# Altium footprint library Button.PcbLib: 18 footprints (part 1 of 2)
Each footprint in its own frame and in the unit in brackets; x right, y up, seen from the top. Pads: shape width x height; smd on the part's side, far side on the other; paste and mask are expansions set on the pad; w line width, h text height; cw(c..) or ccw(c..) is an arc to the next point about the centre after c.
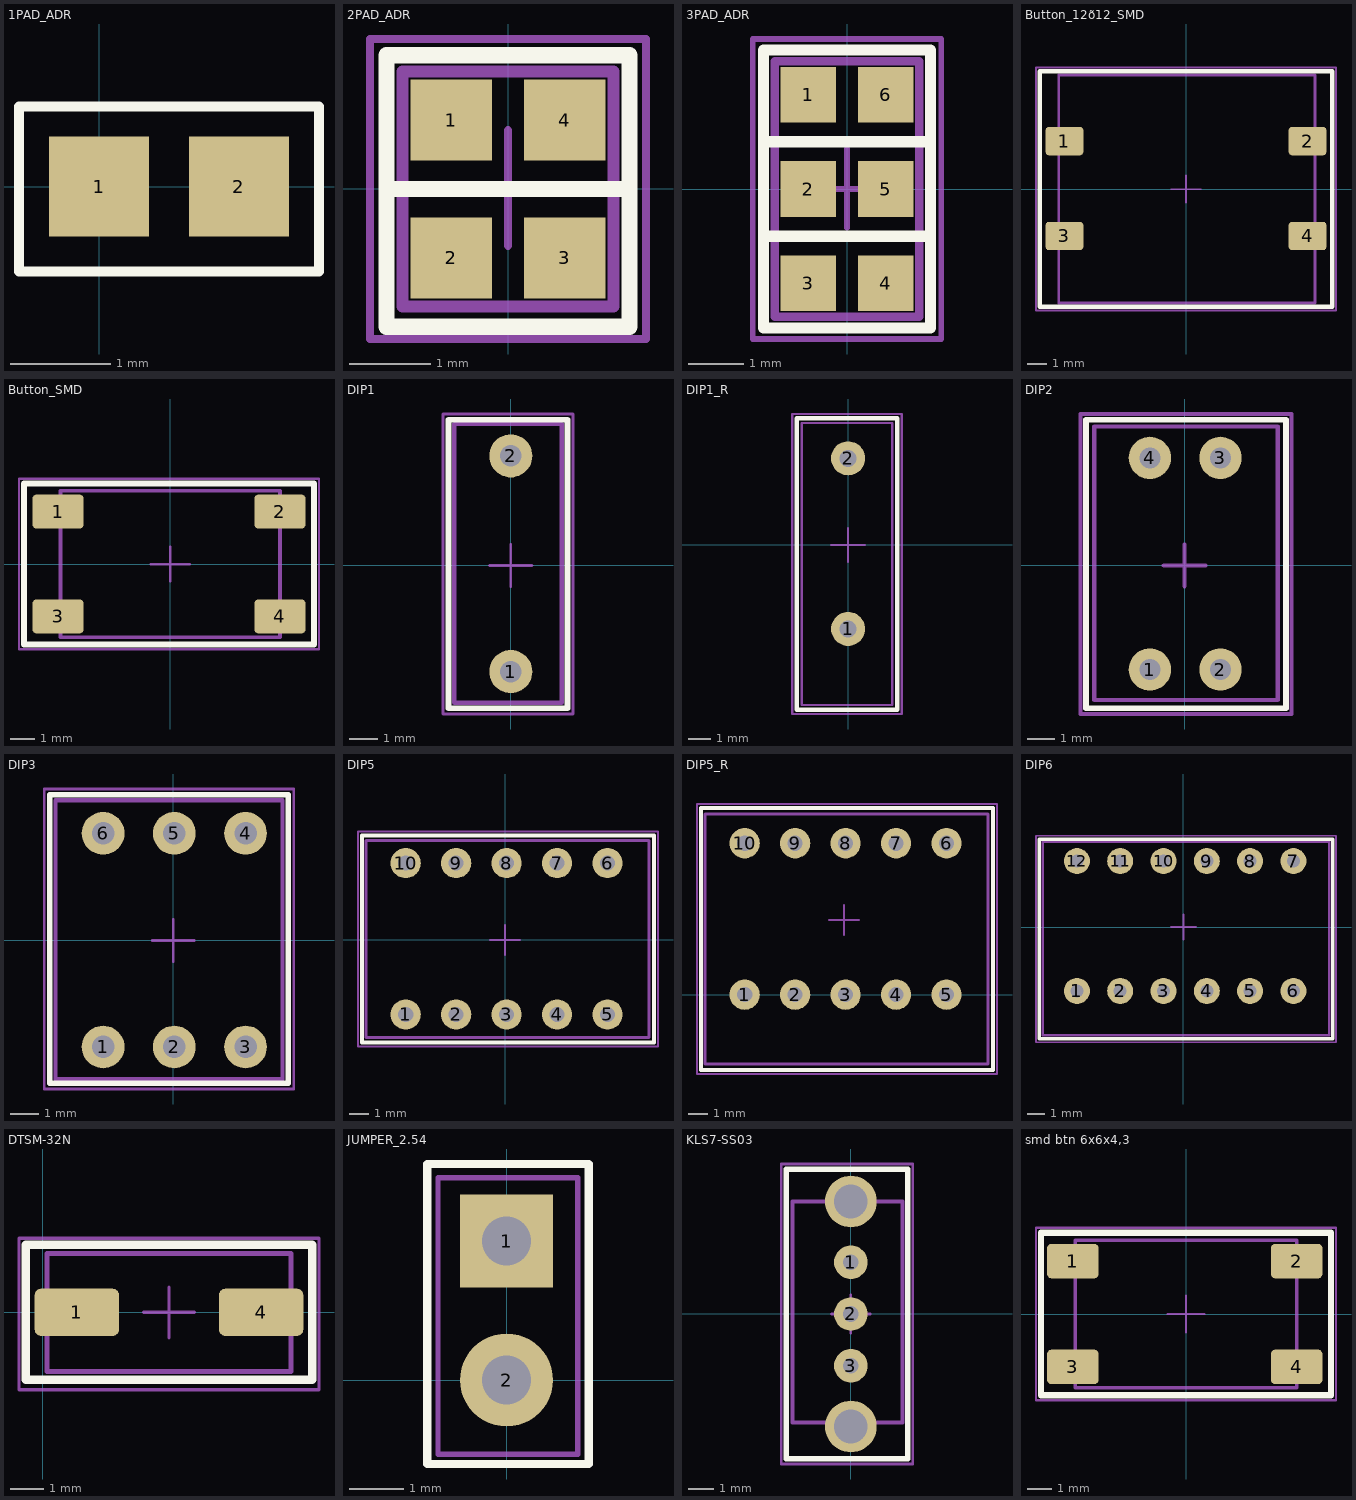
[diagram p0: the footprints below, top view; thin cyan lines are the x and y axes]

## 1PAD_ADR [mm] "Ïåðåìû÷êà äëÿ âûáîðà àäðåñà"
pads (2):
  rect 1x1 smd: 1(0,0) 2(1.4,0)
Top Overlay:
  lines w0.1: -0.8,-0.85 2.2,-0.85 2.2,0.8 -0.8,0.8 -0.8,-0.85

## 2PAD_ADR [mm] "Ïåðåìû÷êà äëÿ âûáîðà àäðåñà"
pads (4):
  rect 1x1 smd: 1(-0.7,0.85) 2(-0.7,-0.85) 3(0.7,-0.85) 4(0.7,0.85)
Top Overlay:
  lines w0.2: -1.5,0 1.5,0 ; -1.5,-1.7 -1.5,0.35 -1.5,1.65 1.5,1.65 1.5,-1.7 -1.5,-1.7
Mechanical 7:
  lines w0.15: -1.3,-1.45 1.3,-1.45 1.3,1.45 -1.3,1.45 -1.3,-1.45 ; -1,0.75 -1,1.15 -0.6,1.15 -0.6,0.75 -1,0.75
Mechanical 9:
  text ".Designator" at -4.7,2.65 h3
Mechanical 10:
  text ".Comment" at -3,-3.35 h2
Mechanical 15:
  lines w0.1: -0.8,0 0.8,0 ; 0,-0.7 0,0.725 ; -1.7,-1.85 1.7,-1.85 1.7,1.85 -1.7,1.85 -1.7,-1.85

## 3PAD_ADR [mm] "Ïåðåìû÷êà äëÿ âûáîðà àäðåñà"
pads (6):
  rect 1x1 smd: 1(-0.7,1.7) 2(-0.7,0) 3(-0.7,-1.7) 4(0.7,-1.7) 5(0.7,0) 6(0.7,1.7)
Top Overlay:
  lines w0.2: -1.5,-0.85 1.5,-0.85 ; -1.5,0.85 1.5,0.85 ; -1.5,-2.5 1.5,-2.5 1.5,2.5 -1.5,2.5 -1.5,1.2 -1.5,-2.5
Mechanical 7:
  lines w0.15: -1.3,-2.3 1.3,-2.3 1.3,2.3 -1.3,2.3 -1.3,-2.3 ; -1,1.6 -0.6,1.6 -0.6,2 -1,2 -1,1.6
Mechanical 9:
  text ".Designator" at -4.7,3.5 h3
Mechanical 10:
  text ".Comment" at -2.7,-4.2 h2
Mechanical 15:
  lines w0.1: -0.8,0 0.8,0 ; 0,-0.7 0,0.725 ; -1.7,-2.7 -1.7,2.7 1.7,2.7 1.7,-2.7 -1.7,-2.7

## Button_12õ12_SMD [mm] "Êíîïêà"
pads (4):
  rrect25% 2x1.5 smd: 1(-6.4,2.525) 2(6.4,2.525) 3(-6.4,-2.475) 4(6.4,-2.475)
Top Overlay:
  lines w0.254: -7.7,-6.2 7.7,-6.2 7.7,6.2 -7.7,6.2 -7.7,-6.2
Mechanical 7:
  lines w0.15: -6.7,-6 -6.7,6 6.8,6 6.8,-6 -6.7,-6
Mechanical 9:
  text ".Designator" at -5.1,7 h3
Mechanical 10:
  text ".Comment" at -3.4,-8.1 h2
Mechanical 15:
  lines w0.1: -0.8,-0.012 0.8,-0.012 ; 0,-0.713 0,0.713 ; -7.9,-6.4 -7.9,6.4 7.9,6.4 7.9,-6.4 -7.9,-6.4
3D body "User Library-SWT_12x12_SMD.step": height 4, standoff 0, extent -6.687,-5.979 6.763,6.021

## Button_SMD [mm] "Êíîïêà"
pads (4):
  rrect25% 2.1x1.4 smd: 1(-4.6,2.15) 2(4.5,2.15) 3(-4.6,-2.15) 4(4.5,-2.15)
Top Overlay:
  lines w0.254: -6,-3.3 -6,3.3 5.9,3.3 5.9,-3.3 -6,-3.3
Mechanical 7:
  lines w0.15: -4.5,-3 4.5,-3 4.5,3 -4.5,3 -4.5,-3
Mechanical 9:
  text ".Designator" at -5,4.2 h3
Mechanical 10:
  text ".Comment" at -3.2,-5 h2
Mechanical 15:
  lines w0.1: -0.8,-0.012 0.8,-0.012 ; 0,-0.713 0,0.713 ; -6.2,-3.5 6.1,-3.5 6.1,3.5 -6.2,3.5 -6.2,-3.5
3D body "User Library-PTS645SL70SMTR92-LFS.STEP": height 7, standoff 0, extent -4.5,-3 4.5,3

## DIP1 [mil]
pads (2):
  round 60 hole 30: 1(0,-147.64) 2(0,152.36)
Top Overlay:
  lines w7.87: -86.61,-198.82 78.74,-198.82 78.74,202.76 -86.61,202.76 -86.61,-198.82
Mechanical 7:
  lines w5.91: -78.74,-190.94 -78.74,196.85 70.87,196.85 70.87,-190.94 -78.74,-190.94
Mechanical 9:
  text ".Designator" at -212.6,240.65 h118.11
Mechanical 10:
  text ".Comment" at -122.05,-267.72 h78.74
Mechanical 15:
  lines w3.94: -29.53,0 29.53,0 ; 0,-29.53 0,29.53 ; -94.49,-206.69 86.61,-206.69 86.61,210.63 -94.49,210.63 -94.49,-206.69
3D body "Switch_DIP1.step": height 268.92, standoff -104.11, extent -79.73,-189.96 70.86,193.9

## DIP1_R [mil]
pads (2):
  round 60 hole 30: 1(0,-147.64) 2(0,152.36)
Top Overlay:
  lines w7.87: -90.55,-289.37 86.61,-289.37 86.61,222.44 -90.55,222.44 -90.55,-289.37
Mechanical 7:
  lines w3.94: -81.69,-281.5 -81.69,214.57 77.76,214.57 77.76,-281.5 -81.69,-281.5
Mechanical 9:
  text ".Designator" at -187.01,265.75 h118.11
Mechanical 10:
  text ".Comment" at -118.11,-364.17 h78.74
Mechanical 15:
  lines w3.94: -29.53,0 29.53,0 ; 0,-29.53 0,29.53 ; -98.43,-297.24 94.49,-297.24 94.49,230.32 -98.43,230.32 -98.43,-297.24
3D body "DIP1_R.STEP": height 401.57, standoff -125.98, extent -82.28,-281.5 78.74,214.57

## DIP2 [mil]
pads (4):
  round 60 hole 30: 1(-49.21,-147.64) 2(50.79,-147.64) 3(50.79,152.36) 4(-49.21,152.36)
Top Overlay:
  lines w7.87: -139.76,-202.76 -139.76,206.69 143.7,206.69 143.7,-202.76 -139.76,-202.76
Mechanical 7:
  lines w5.91: -127.95,-190.94 131.89,-190.94 131.89,196.85 -127.95,196.85 -127.95,-190.94
Mechanical 9:
  text ".Designator" at -187.01,246.06 h118.11
Mechanical 10:
  text ".Comment" at -127.95,-275.59 h78.74
Mechanical 15:
  lines w5.91: -29.53,0 29.53,0 ; 0,-29.53 0,29.53 ; -147.64,-210.63 -147.64,214.57 151.57,214.57 151.57,-210.63 -147.64,-210.63
3D body "User Library-DS1040-02 (DIP_switch).step": height 267.72, standoff -151.57, extent -126.69,-192.52 130.79,197.25

## DIP3 [mm]
pads (6):
  round 1.524 hole 0.8: 1(-2.5,-3.8) 2(0.04,-3.8) 3(2.58,-3.8) 4(2.58,3.82) 5(0.04,3.82) 6(-2.5,3.82)
Top Overlay:
  lines w0.2: -4.4,-5.1 -4.4,5.2 4.1,5.2 4.1,-5.1 -4.4,-5.1
Mechanical 7:
  lines w0.15: -4.2,-4.95 3.9,-4.95 3.9,5 -4.2,5 -4.2,-4.95
Mechanical 9:
  text ".Designator" at -4.7,6.2 h3
Mechanical 10:
  text ".Comment" at -3.5,-7 h2
Mechanical 15:
  lines w0.1: -0.75,0 0.75,0 ; 0,-0.75 0,0.75 ; -4.6,-5.3 -4.6,5.4 4.3,5.4 4.3,-5.3 -4.6,-5.3
3D body "User Library-switch 3.step": height 7, standoff -3.7, extent -4.25,-4.9 3.884,5

## DIP5 [mil]
pads (10):
  round 60 hole 30: 1(-196.85,-147.64) 2(-96.85,-147.64) 3(3.15,-147.64) 4(103.15,-147.64) 5(203.15,-147.64) 6(203.15,152.36) 7(103.15,152.36) 8(3.15,152.36) 9(-96.85,152.36) 10(-196.85,152.36)
Top Overlay:
  lines w7.87: -283.46,-202.76 295.28,-202.76 295.28,206.69 -283.46,206.69 -283.46,-202.76
Mechanical 7:
  lines w5.91: -275.59,-192.91 -275.59,196.85 285.43,196.85 285.43,-192.91 -275.59,-192.91
Mechanical 9:
  text ".Designator" at -187.01,246.06 h118.11
Mechanical 10:
  text ".Comment" at -147.64,-275.59 h78.74
Mechanical 15:
  lines w3.94: -29.53,0 29.53,0 ; 0,-29.53 0,29.53 ; -291.34,-210.63 303.15,-210.63 303.15,214.57 -291.34,214.57 -291.34,-210.63
3D body "Switch_DIP5.step": height 238.23, standoff -124.02, extent -275.59,-194.88 285.82,194.89

## DIP5_R [mil]
pads (10):
  round 60 hole 30: 1(679.13,0) 2(779.13,0) 3(879.13,0) 4(979.13,0) 5(1079.13,0) 6(1079.13,300) 7(979.13,300) 8(879.13,300) 9(779.13,300) 10(679.13,300)
Top Overlay:
  lines w7.87: 592.52,-149.61 592.52,370.08 1171.26,370.08 1171.26,-149.61 592.52,-149.61
Mechanical 7:
  lines w5.91: 600.39,-137.8 1161.42,-137.8 1161.42,358.27 600.39,358.27 600.39,-137.8
Mechanical 9:
  text ".Designator" at 688.98,405.51 h118.11
Mechanical 10:
  text ".Comment" at 767.72,-216.54 h78.74
Mechanical 15:
  lines w3.94: 846.46,147.64 905.51,147.64 ; 875.98,118.11 875.98,177.17 ; 584.65,-157.48 584.65,377.95 1179.13,377.95 1179.13,-157.48 584.65,-157.48
3D body "19643.stp": height 403.54, standoff -124.02, extent 600.4,-135.82 1161.82,360.24

## DIP6 [mil]
pads (12):
  round 60 hole 30: 1(-246.06,-147.64) 2(-146.06,-147.64) 3(-46.06,-147.64) 4(53.94,-147.64) 5(153.94,-147.64) 6(253.94,-147.64) 7(253.94,152.36) 8(153.94,152.36) 9(53.94,152.36) 10(-46.06,152.36) 11(-146.06,152.36) 12(-246.06,152.36)
Top Overlay:
  lines w7.87: -332.68,-257.87 344.49,-257.87 344.49,202.76 -332.68,202.76 -332.68,-257.87
Mechanical 7:
  lines w5.91: -324.8,-250 -324.8,196.85 336.61,196.85 336.61,-250 -324.8,-250
Mechanical 9:
  text ".Designator" at -206.69,246.06 h118.11
Mechanical 10:
  text ".Comment" at -157.48,-334.65 h78.74
Mechanical 15:
  lines w3.94: -29.53,0 29.53,0 ; 0,-29.53 0,29.53 ; -340.55,-265.75 352.36,-265.75 352.36,210.63 -340.55,210.63 -340.55,-265.75
3D body "DIP 6 ïîçèöèé.STEP": height 354.33, standoff -143.7, extent -322.8,-252.46 334.68,196.36

## DTSM-32N [mm] "Êíîïêà"
pads (2):
  rrect25% 2.5x1.4 smd: 1(1.016,0) 4(6.484,0)
Top Overlay:
  lines w0.25: -0.5,2 8,2
  lines w0.254: -0.5,2 -0.5,-2 8,-2 8,2
Mechanical 7:
  lines w0.15: 0.127,-1.75 0.127,1.75 7.366,1.75 7.366,-1.75 0.127,-1.75
Mechanical 9:
  text ".Designator" at -0.9,3.1 h3
Mechanical 10:
  text ".Comment" at 0.5,-3.8 h2
Mechanical 15:
  lines w0.1: 3,0 4.5,0 ; 3.75,-0.75 3.75,0.75 ; -0.7,-2.3 -0.7,2.2 8.2,2.2 8.2,-2.3 -0.7,-2.3
3D body "User Library-DTSM-32.STEP": height 5, standoff 0, extent 0.15,-1.75 7.35,1.75

## JUMPER_2.54 [mm] "Ðàçúåì äëÿ ïðîãðàììàòîðà ISP"
height 0.05
pads (2):
  rect 1.7x1.7 hole 0.9: 1(0,2.54)
  round 1.7 hole 0.9: 2(0,0)
Top Overlay:
  lines w0.15: -1.45,-1.535 1.5,-1.535 1.5,3.95 -1.45,3.95 -1.45,-1.535
Mechanical 7:
  lines w0.1: -1.255,-1.355 -1.25,-1.36 1.3,-1.36 1.3,3.7 -1.255,3.7 -1.255,-1.355
Mechanical 10:
  text ".Comment" at -0.7,-4.1 h0.6
  text ".Designator" at -0.3,3.7 h0.8
3D body "Jumper.STEP": height 8.54, standoff -3, extent -1.265,-1.355 1.279,3.795

## KLS7-SS03 [mm] "Ïåðåêëþ÷àòåëü äâèæêîâûé"
pads (5):
  round 1.3 hole 0.6: 1(0,2) 2(0,0) 3(0,-2)
  round 2 hole 1.3: ""(0,-4.35) ""(0,4.35)
Top Overlay:
  lines w0.2: -2.5,-5.6 -2.5,5.6 2.2,5.6 2.2,-5.6 -2.5,-5.6
Mechanical 7:
  lines w0.15: -2.25,-4.2 2,-4.2 2,4.35 -2.25,4.35 -2.25,-4.2
Mechanical 9:
  text ".Designator" at -4.9,6.6 h3
Mechanical 10:
  text ".Comment" at -3.5,-7.4 h2
Mechanical 15:
  lines w0.1: -0.75,0 0.75,0 ; 0,-0.75 0,0.75 ; -2.7,-5.8 -2.7,5.8 2.4,5.8 2.4,-5.8 -2.7,-5.8

## smd btn 6x6x4,3 [mm] "Êíîïêà"
pads (4):
  rrect25% 2.1x1.4 smd: 1(-4.6,2.15) 2(4.5,2.15) 3(-4.6,-2.15) 4(4.5,-2.15)
Top Overlay:
  lines w0.254: -5.9,-3.3 5.9,-3.3 5.9,3.3 -5.9,3.3 -5.9,-3.3
Mechanical 7:
  lines w0.15: -4.5,-3 4.5,-3 4.5,3 -4.5,3 -4.5,-3
Mechanical 9:
  text ".Designator" at -4.3,4.3 h3
Mechanical 10:
  text ".Comment" at -2.9,-4.9 h2
Mechanical 15:
  lines w0.1: -0.75,0 0.75,0 ; 0,-0.75 0,0.75 ; -6.1,-3.5 -6.1,3.5 6.1,3.5 6.1,-3.5 -6.1,-3.5
3D body "User Library-PTS645SL70SMTR92-LFS.STEP": height 7, standoff 0, extent -4.5,-3 4.5,3